# EAGLE library part 21_PIN (library con-custom)
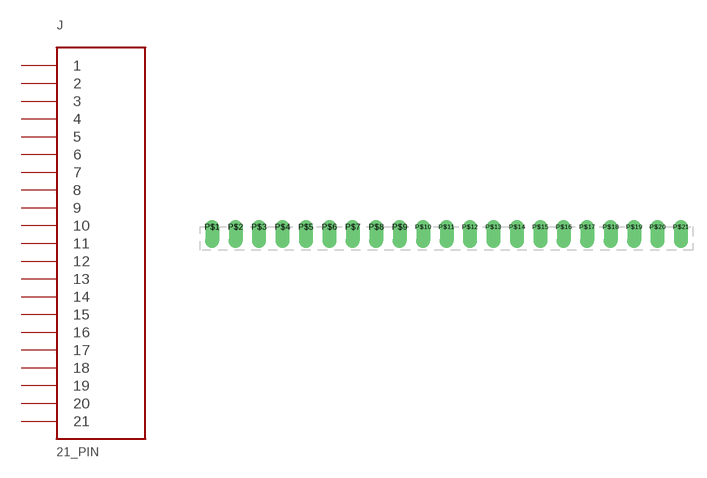
[diagram p1: symbol with the pads of 21_CUSTOM; footprint 21_CUSTOM]

Designator prefix J

## 21_PIN  [21_CUSTOM]
P$1  1
P$2  2
P$3  3
P$4  4
P$5  5
P$6  6
P$7  7
P$8  8
P$9  9
P$10  10
P$11  11
P$12  12
P$13  13
P$14  14
P$15  15
P$16  16
P$17  17
P$18  18
P$19  19
P$20  20
P$21  21

## Footprint 21_CUSTOM (pad centres in mm)
drill 1 offset: P$1 -25.4,0; P$2 -22.86,0; P$3 -20.32,0; P$4 -17.78,0; P$5 -15.24,0; P$6 -12.7,0; P$7 -10.16,0; P$8 -7.62,0; P$9 -5.08,0; P$10 -2.54,0; P$11 0,0; P$12 2.54,0; P$13 5.08,0; P$14 7.62,0; P$15 10.16,0; P$16 12.7,0; P$17 15.24,0; P$18 17.78,0; P$19 20.32,0; P$20 22.86,0; P$21 25.4,0